# EAGLE library part TPS62745 (library df4iah_powersupply)
TPS62745 Dual-cell Ultra Low IQ Step Down Converter for Low Power Wireless Applications Input Voltage Range VIN from 3.3 V to 10 V Typical 400 nA Quiescent Current Up to 90% efficiency with load currents >15 μA Up to 300 mA Output Current RF Friendly DCS-Control™ Low Output Ripple Voltage 16 Selectable Output Voltages from 1.8 V to 3.3 V (TPS62745) 1.3 V to 2.8 V (TPS627451) Integrated input voltage switch Integrated Discharge Function at VOUT Open Drain Power Good Output Operates with a Tiny 3.3 μH or 4.7 μH Inductor Small 3 mm x 2 mm WSON Package
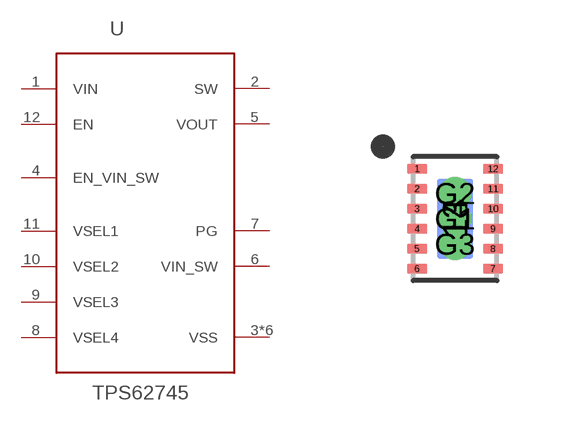
[diagram p7: symbol with the pads of WSON-12; footprint WSON-12]

Designator prefix U

## TPS62745  [WSON-12]
1  VIN  pwr
2  SW  pas
3  VSS  pas
4  EN_VIN_SW  in
5  VOUT  pas
6  VIN_SW  pas
7  PG  oc
8  VSEL4  in
9  VSEL3  in
10  VSEL2  in
11  VSEL1  in
12  EN  in
13  VSS  pas
14  VSS  pas
G1  VSS  pas
G2  VSS  pas
G3  VSS  pas

## Footprint WSON-12 (pad centres in mm)
WSON(12) Body: 3.00 mm x 2.00 mm Pitch: 0.5 mm
smd 0.5 x 0.25: 1 -0.95,1.25; 2 -0.95,0.75; 3 -0.95,0.25; 4 -0.95,-0.25; 5 -0.95,-0.75; 6 -0.95,-1.25; 7 0.95,-1.25; 8 0.95,-0.75; 9 0.95,-0.25; 10 0.95,0.25; 11 0.95,0.75; 12 0.95,1.25
smd 0.9 x 2: 13 0,0
smd 0.9 x 2 bottom: 14 0,0
drill 0.3 pad 0.6: G1 0,0; G2 0,0.635; G3 0,-0.635